# Altium schematic symbol library MB0025A.01.A.1.SchLib: 1 symbol
Pins are listed as number, name and electrical type; pins without a type are passive.

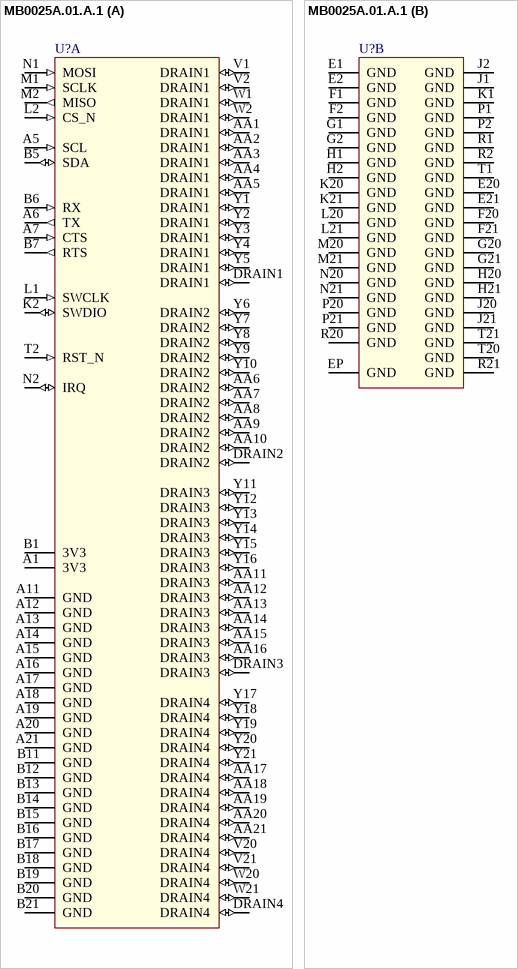
[diagram p0: symbol MB0025A.01.A.1]

## MB0025A.01.A.1
designator U?
part A pins: A1 3V3, A5 SCL (in), A6 TX (out), A7 CTS (in), A11 GND, A12 GND, A13 GND, A14 GND, A15 GND, A16 GND, A17 GND, A18 GND, A19 GND, A20 GND, A21 GND, AA1 DRAIN1 (io), AA2 DRAIN1 (io), AA3 DRAIN1 (io), AA4 DRAIN1 (io), AA5 DRAIN1 (io), AA6 DRAIN2 (io), AA7 DRAIN2 (io), AA8 DRAIN2 (io), AA9 DRAIN2 (io), AA10 DRAIN2 (io), AA11 DRAIN3 (io), AA12 DRAIN3 (io), AA13 DRAIN3 (io), AA14 DRAIN3 (io), AA15 DRAIN3 (io), AA16 DRAIN3 (io), AA17 DRAIN4 (io), AA18 DRAIN4 (io), AA19 DRAIN4 (io), AA20 DRAIN4 (io), AA21 DRAIN4 (io), B1 3V3, B5 SDA (io), B6 RX (in), B7 RTS (out), B11 GND, B12 GND, B13 GND, B14 GND, B15 GND, B16 GND, B17 GND, B18 GND, B19 GND, B20 GND, B21 GND, DRAIN1 (io), DRAIN2 (io), DRAIN3 (io), DRAIN4 (io), K2 SWDIO (io), L1 SWCLK (in), L2 CS_N (in), M1 SCLK (in), M2 MISO (out), N1 MOSI (in), N2 IRQ (io), T2 RST_N (in), V1 DRAIN1 (io), V2 DRAIN1 (io), V20 DRAIN4 (io), V21 DRAIN4 (io), W1 DRAIN1 (io), W2 DRAIN1 (io), W20 DRAIN4 (io), W21 DRAIN4 (io), Y1 DRAIN1 (io), Y2 DRAIN1 (io), Y3 DRAIN1 (io), Y4 DRAIN1 (io), Y5 DRAIN1 (io), Y6 DRAIN2 (io), Y7 DRAIN2 (io), Y8 DRAIN2 (io), Y9 DRAIN2 (io), Y10 DRAIN2 (io), Y11 DRAIN3 (io), Y12 DRAIN3 (io), Y13 DRAIN3 (io), Y14 DRAIN3 (io), Y15 DRAIN3 (io), Y16 DRAIN3 (io), Y17 DRAIN4 (io), Y18 DRAIN4 (io), Y19 DRAIN4 (io), Y20 DRAIN4 (io), Y21 DRAIN4 (io)
part B pins: E1 GND (power), E2 GND (power), E20 GND (power), E21 GND (power), EP GND, F1 GND (power), F2 GND (power), F20 GND (power), F21 GND (power), G1 GND (power), G2 GND (power), G20 GND (power), G21 GND (power), H1 GND (power), H2 GND (power), H20 GND (power), H21 GND (power), J1 GND (power), J2 GND (power), J20 GND (power), J21 GND (power), K1 GND (power), K20 GND (power), K21 GND (power), L20 GND (power), L21 GND (power), M20 GND (power), M21 GND (power), N20 GND (power), N21 GND (power), P1 GND (power), P2 GND (power), P20 GND (power), P21 GND (power), R1 GND (power), R2 GND (power), R20 GND (power), R21 GND (power), T1 GND (power), T20 GND (power), T21 GND (power)